# Altium integrated library TI Data Converters Analog to Digital Converter.IntLib: 2197 symbols (part 104 of 168)
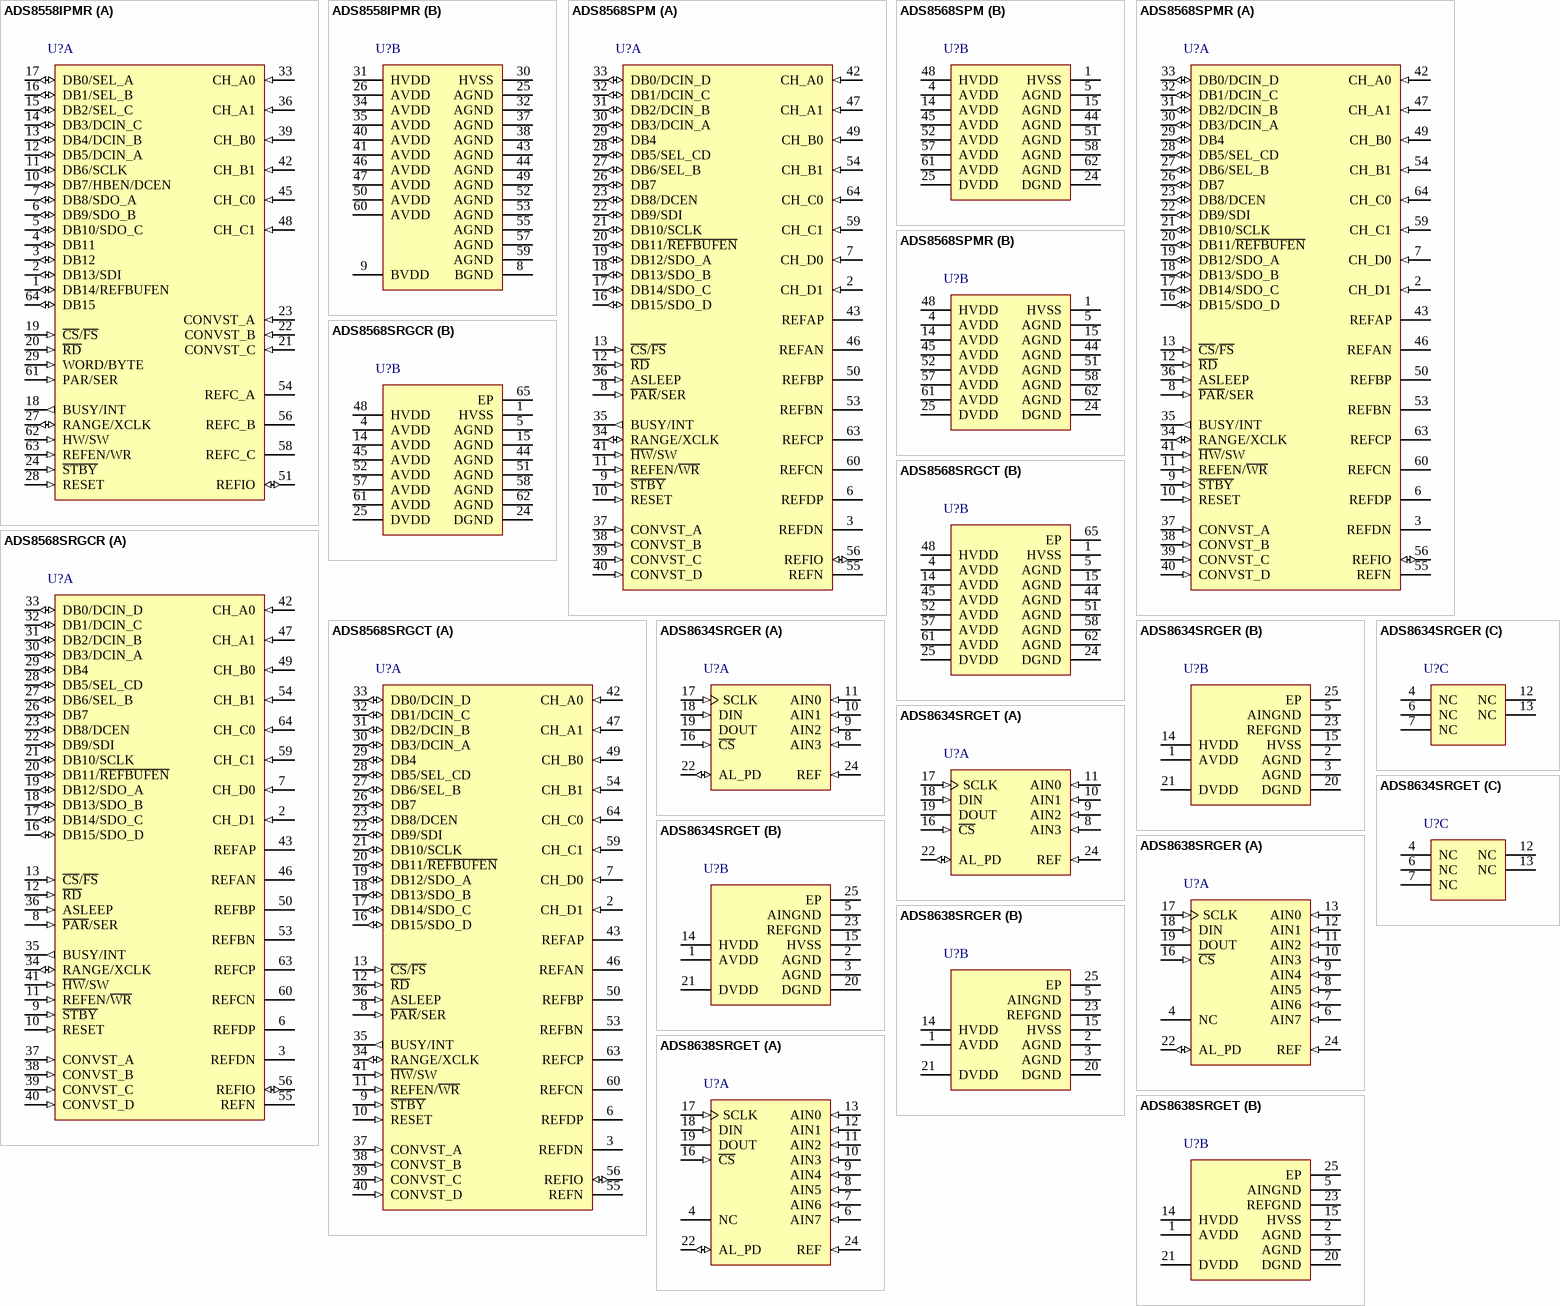
[diagram p229: symbols ADS8558IPMR to ADS8638SRGET]

## ADS8568SRGCR
designator U?
16-Bit, 8-Channel, Simultaneous Sampling, Bipolar Input ADC, -40 to 125 degC, 64-pin QFN (RGC64), Green (RoHS & no Sb/Br); Manufacturer: Texas Instruments; PartNumber: ADS8568SRGCR; # Input Channels: 8; Analog Voltage AV/DD(Max)(V): 5.5; Analog Voltage AV/DD(Min)(V): 4.5; Architecture: SAR; Digital Supply(Min)(V): 2.7; INL(Max)(+/-LSB): 4; Interface: Parallel CMOS,Serial SPI; Resolution(Bits): 16; Sample Rate (max)(SPS): 510K; SFDR(dB): 95; SINAD(dB): 90; SNR(dB): 91.5; SubFamily: Precision ADC (<=10MSPS); DatasheetVersion: SBAS543A; PackageVersion: 4204106/F, 11/2011; PackageReference: RGC64-7250X7250TP; PackageDescription: 64-Pin Plastic Quad Flatpack No-Lead, Body 9 x 9 mm, Pitch 0.5 mm; Supplier 1: Digi-Key; Supplier Part Number 1: ADS1211E/1KG4-ND; Supplier 2: Newark; Supplier Part Number 2: 53K9133; Supplier 3: Mouser; Supplier Part Number 3: 595-ADS1211E/1KG4; Digital Supply(Max)(V): 5.5; Eco-Plan: Green (RoHS & no Sb/Br); Mounting Technology: Surface Mount; ComponentLink1Description: Manufacturer URL; ComponentLink1URL: http://www.ti.com/; ComponentLink2Description: Datasheet; ComponentLink2URL: http://www.ti.com/general/docs/lit/getliterature.tsp?genericPartNumber=ADS8568&fileType=pdf; ComponentLink3Description: Package Specification; ComponentLink3URL: http://www.ti.com/litv/pdf/mpqf125e
footprint TI-RGC64-7250X7250TP_V (QFN, 64-Leads, Body 9x9mm, Pitch 0.5mm, Thermal Pad 7.25x7.25mm, TI Recommended)
part A pins: 2 CH_D1 (in) "Analog input of channel D1. The input voltage range is controlled by the RANGE pin in hardware mode or by the Configuration Register (CONFIG) bit C19 (RANGE_D) in software mode. This pin can be powered down using CONFIG bit (See Datasheet)", 3 REFDN "Decoupling capacitor input for reference of channel pair D. Connect to the decoupling capacitor and AGND according to the Power Supply section.", 6 REFDP "Decoupling capacitor input for the channel pair D reference. Connect to the decoupling capacitor according to the Power Supply section.", 7 CH_D0 (in) "Analog input of channel D0. The input voltage range is controlled by the RANGE pin in hardware mode or by CONFIG bit C19 (RANGE_D) in software mode. This pin can be powered down using CONFIG bit C18 (PD_D) in software mode.", 8 ~{PAR}/SER (in) "Interface mode selection input. When low, the parallel interface is selected. When high, the serial interface is enabled.", 9 ~{STBY} (in) "Hardware mode (H\W\/SW = 0): standby mode input. When low, the entire device is powered down (including the internal conversion clock source and reference). When high, the device operates in normal mode. Software mode (See Datasheet)", 10 RESET (in) "Reset input, active high. This pin aborts any ongoing conversions and resets the internal Configuration Register (CONFIG) to 000003FFh. A valid reset pulse should be at least 50 ns long.", 11 REFEN/~{WR} (in), 12 ~{RD} (in), 13 ~{CS}/~{FS} (in), 16 DB15/SDO_D (io), 17 DB14/SDO_C (io), 18 DB13/SDO_B (io), 19 DB12/SDO_A (io), 20 DB11/~{REFBUFEN} (io), 21 DB10/SCLK (io), 22 DB9/SDI (io), 23 DB8/DCEN (io), 26 DB7 (io), 27 DB6/SEL_B (io), 28 DB5/SEL_CD (io), 29 DB4 (io), 30 DB3/DCIN_A (io), 31 DB2/DCIN_B (io), 32 DB1/DCIN_C (io), 33 DB0/DCIN_D (io), 34 RANGE/XCLK (io) "Hardware mode (H\W\/SW = 0): analog input voltage range select input. When low, the analog input voltage range is +/-4VREF. When high, the analog input voltage range is +/-2VREF. Sofware mode (H\W\/SW = 1): this pin is an (See Datasheet)", 35 BUSY/INT (out) "When CONFIG bit C27 = 0 (BUSY/INT) this pin is a converter busy status output. This pin transitions high when a conversion has been started and transitions low for a single conversion clock cycle (tCCLK) whenever a channel (See Datasheet)", 36 ASLEEP (in) "Auto-sleep enable input. When low, the device operates in normal mode. When high, the device works in auto-sleep mode where the hold mode and the actual conversion is activated 6 conversion clock (tCCLK) cycles after issuing (See Datasheet)", 37 CONVST_A (in) "Conversion start of channel pair A. The rising edge of this signal initiates simultaneous conversion of analog signals at inputs CH_A[1:0]. This signal resets the internal channel state machine that causes the data output to (See Datasheet)", 38 CONVST_B (in) "Conversion start of channel pair B. The rising edge of this signal initiates simultaneous conversion of analog signals at inputs CH_B[1:0].", 39 CONVST_C (in) "Conversion start of channel pair C. The rising edge of this signal initiates simultaneous conversion of analog signals at inputs CH_C[1:0].", 40 CONVST_D (in) "Conversion start of channel pair D. The rising edge of this signal initiates simultaneous conversion of analog signals at inputs CH_D[1:0].", 41 ~{HW}/SW (in) "Mode selection input. When low, the hardware mode is selected and the device functions according to the settings of the external pins. When high, the software mode is selected in which the device is configured by writing to (See Datasheet)", 42 CH_A0 (in) "Analog input of channel A0; channel A is the master channel pair that is always active. The input voltage range is controlled by the RANGE pin in hardware mode or by CONFIG bit C24 (RANGE_A) in software mode. In cases where (See Datasheet)", 43 REFAP "Decoupling capacitor input for reference of channel pair A. Connect to the decoupling capacitor according to the Power Supply section.", 46 REFAN "Decoupling capacitor input for reference of channel pair A. Connect to the decoupling capacitor and AGND according to the Power Supply section.", 47 CH_A1 (in) "Analog input of channel A1; channel A is the master channel pair that is always active. The input voltage range is controlled by the RANGE pin in hardware mode or by CONFIG bit C24 (RANGE_A) in software mode. In cases where (See Datasheet)", 49 CH_B0 (in) "Analog input of channel B0. The input voltage range is controlled by the RANGE pin in hardware mode or by CONFIG bit C23 (RANGE_B) in software mode.", 50 REFBP "Decoupling capacitor input for reference of channel pair B. Connect to the decoupling capacitor according to the Power Supply section.", 53 REFBN "Decoupling capacitor input for reference of channel pair B. Connect to the decoupling capacitor and AGND according to the Power Supply section.", 54 CH_B1 (in) "Analog input of channel B1. The input voltage range is controlled by the RANGE pin in hardware mode or by CONFIG bit C23 (RANGE_B) in software mode.", 55 REFN "Negative reference input/output pin. Connect to a decoupling capacitor and AGND according to the Power Supply section.", 56 REFIO (io) "Reference voltage input/output. The internal reference is enabled by the REFEN/WR pin in hardware mode or by CONFIG bit C15 (REFEN) in software mode. The output value is controlled by the internal DAC (CONFIG bits C[9:0]). (See Datasheet)", 59 CH_C1 (in) "Analog input of channel C1. The input voltage range is controlled by the RANGE pin in hardware mode or by CONFIG bit C21 (RANGE_C) in software mode.", 60 REFCN "Decoupling capacitor input for reference of channel pair C. Connect to the decoupling capacitor and AGND according to the Power Supply section.", 63 REFCP "Decoupling capacitor input for reference of channel pair C. Connect to the decoupling capacitor according to the Power Supply section.", 64 CH_C0 (in) "Analog input of channel C0. The input voltage range is controlled by the RANGE pin in hardware mode or by CONFIG bit C21 (RANGE_C) in software mode."
part B pins: 1 HVSS (power) "Negative supply voltage for the analog inputs. Decouple according to the Power Supply section.", 4 AVDD (power) "Analog power supply. Decouple according to the Power Supply section.", 5 AGND (power) "Analog ground; connect to the analog ground plane.", 14 AVDD (power) "Analog power supply. Decouple according to the Power Supply section.", 15 AGND (power) "Analog ground; connect to the analog ground plane.", 24 DGND (power) "Buffer I/O ground, connect to digital ground plane", 25 DVDD (power) "Buffer I/O supply, connect to digital supply. Decouple according to the Power Supply section.", 44 AGND (power) "Analog ground; connect to the analog ground plane.", 45 AVDD (power) "Analog power supply. Decouple according to the Power Supply section.", 48 HVDD (power) "Positive supply voltage for the analog inputs. Decouple according to the Power Supply section.", 51 AGND (power) "Analog ground; connect to the analog ground plane.", 52 AVDD (power) "Analog power supply. Decouple according to the Power Supply section.", 57 AVDD (power) "Analog power supply. Decouple according to the Power Supply section.", 58 AGND (power) "Analog ground; connect to the analog ground plane.", 61 AVDD (power) "Analog power supply. Decouple according to the Power Supply section.", 62 AGND (power) "Analog ground; connect to the analog ground plane.", 65 EP

## ADS8568SRGCT
designator U?
16-Bit, 8-Channel, Simultaneous Sampling, Bipolar Input ADC, -40 to 125 degC, 64-pin QFN (RGC64), Green (RoHS & no Sb/Br); Manufacturer: Texas Instruments; PartNumber: ADS8568SRGCT; # Input Channels: 8; Analog Voltage AV/DD(Max)(V): 5.5; Analog Voltage AV/DD(Min)(V): 4.5; Architecture: SAR; Digital Supply(Min)(V): 2.7; INL(Max)(+/-LSB): 4; Interface: Parallel CMOS,Serial SPI; Resolution(Bits): 16; Sample Rate (max)(SPS): 510K; SFDR(dB): 95; SINAD(dB): 90; SNR(dB): 91.5; SubFamily: Precision ADC (<=10MSPS); DatasheetVersion: SBAS543A; PackageVersion: 4204106/F, 11/2011; PackageReference: RGC64-7250X7250TP; PackageDescription: 64-Pin Plastic Quad Flatpack No-Lead, Body 9 x 9 mm, Pitch 0.5 mm; Supplier 1: Digi-Key; Supplier Part Number 1: ADS1211EG4-ND; Supplier 2: Mouser; Supplier Part Number 2: 595-ADS1211EG4; Digital Supply(Max)(V): 5.5; Eco-Plan: Green (RoHS & no Sb/Br); Mounting Technology: Surface Mount; ComponentLink1Description: Manufacturer URL; ComponentLink1URL: http://www.ti.com/; ComponentLink2Description: Datasheet; ComponentLink2URL: http://www.ti.com/general/docs/lit/getliterature.tsp?genericPartNumber=ADS8568&fileType=pdf; ComponentLink3Description: Package Specification; ComponentLink3URL: http://www.ti.com/litv/pdf/mpqf125e
footprint TI-RGC64-7250X7250TP_V (QFN, 64-Leads, Body 9x9mm, Pitch 0.5mm, Thermal Pad 7.25x7.25mm, TI Recommended)
part A pins: 2 CH_D1 (in) "Analog input of channel D1. The input voltage range is controlled by the RANGE pin in hardware mode or by the Configuration Register (CONFIG) bit C19 (RANGE_D) in software mode. This pin can be powered down using CONFIG bit (See Datasheet)", 3 REFDN "Decoupling capacitor input for reference of channel pair D. Connect to the decoupling capacitor and AGND according to the Power Supply section.", 6 REFDP "Decoupling capacitor input for the channel pair D reference. Connect to the decoupling capacitor according to the Power Supply section.", 7 CH_D0 (in) "Analog input of channel D0. The input voltage range is controlled by the RANGE pin in hardware mode or by CONFIG bit C19 (RANGE_D) in software mode. This pin can be powered down using CONFIG bit C18 (PD_D) in software mode.", 8 ~{PAR}/SER (in) "Interface mode selection input. When low, the parallel interface is selected. When high, the serial interface is enabled.", 9 ~{STBY} (in) "Hardware mode (H\W\/SW = 0): standby mode input. When low, the entire device is powered down (including the internal conversion clock source and reference). When high, the device operates in normal mode. Software mode (See Datasheet)", 10 RESET (in) "Reset input, active high. This pin aborts any ongoing conversions and resets the internal Configuration Register (CONFIG) to 000003FFh. A valid reset pulse should be at least 50 ns long.", 11 REFEN/~{WR} (in), 12 ~{RD} (in), 13 ~{CS}/~{FS} (in), 16 DB15/SDO_D (io), 17 DB14/SDO_C (io), 18 DB13/SDO_B (io), 19 DB12/SDO_A (io), 20 DB11/~{REFBUFEN} (io), 21 DB10/SCLK (io), 22 DB9/SDI (io), 23 DB8/DCEN (io), 26 DB7 (io), 27 DB6/SEL_B (io), 28 DB5/SEL_CD (io), 29 DB4 (io), 30 DB3/DCIN_A (io), 31 DB2/DCIN_B (io), 32 DB1/DCIN_C (io), 33 DB0/DCIN_D (io), 34 RANGE/XCLK (io) "Hardware mode (H\W\/SW = 0): analog input voltage range select input. When low, the analog input voltage range is +/-4VREF. When high, the analog input voltage range is +/-2VREF. Sofware mode (H\W\/SW = 1): this pin is an (See Datasheet)", 35 BUSY/INT (out) "When CONFIG bit C27 = 0 (BUSY/INT) this pin is a converter busy status output. This pin transitions high when a conversion has been started and transitions low for a single conversion clock cycle (tCCLK) whenever a channel (See Datasheet)", 36 ASLEEP (in) "Auto-sleep enable input. When low, the device operates in normal mode. When high, the device works in auto-sleep mode where the hold mode and the actual conversion is activated 6 conversion clock (tCCLK) cycles after issuing (See Datasheet)", 37 CONVST_A (in) "Conversion start of channel pair A. The rising edge of this signal initiates simultaneous conversion of analog signals at inputs CH_A[1:0]. This signal resets the internal channel state machine that causes the data output to (See Datasheet)", 38 CONVST_B (in) "Conversion start of channel pair B. The rising edge of this signal initiates simultaneous conversion of analog signals at inputs CH_B[1:0].", 39 CONVST_C (in) "Conversion start of channel pair C. The rising edge of this signal initiates simultaneous conversion of analog signals at inputs CH_C[1:0].", 40 CONVST_D (in) "Conversion start of channel pair D. The rising edge of this signal initiates simultaneous conversion of analog signals at inputs CH_D[1:0].", 41 ~{HW}/SW (in) "Mode selection input. When low, the hardware mode is selected and the device functions according to the settings of the external pins. When high, the software mode is selected in which the device is configured by writing to (See Datasheet)", 42 CH_A0 (in) "Analog input of channel A0; channel A is the master channel pair that is always active. The input voltage range is controlled by the RANGE pin in hardware mode or by CONFIG bit C24 (RANGE_A) in software mode. In cases where (See Datasheet)", 43 REFAP "Decoupling capacitor input for reference of channel pair A. Connect to the decoupling capacitor according to the Power Supply section.", 46 REFAN "Decoupling capacitor input for reference of channel pair A. Connect to the decoupling capacitor and AGND according to the Power Supply section.", 47 CH_A1 (in) "Analog input of channel A1; channel A is the master channel pair that is always active. The input voltage range is controlled by the RANGE pin in hardware mode or by CONFIG bit C24 (RANGE_A) in software mode. In cases where (See Datasheet)", 49 CH_B0 (in) "Analog input of channel B0. The input voltage range is controlled by the RANGE pin in hardware mode or by CONFIG bit C23 (RANGE_B) in software mode.", 50 REFBP "Decoupling capacitor input for reference of channel pair B. Connect to the decoupling capacitor according to the Power Supply section.", 53 REFBN "Decoupling capacitor input for reference of channel pair B. Connect to the decoupling capacitor and AGND according to the Power Supply section.", 54 CH_B1 (in) "Analog input of channel B1. The input voltage range is controlled by the RANGE pin in hardware mode or by CONFIG bit C23 (RANGE_B) in software mode.", 55 REFN "Negative reference input/output pin. Connect to a decoupling capacitor and AGND according to the Power Supply section.", 56 REFIO (io) "Reference voltage input/output. The internal reference is enabled by the REFEN/WR pin in hardware mode or by CONFIG bit C15 (REFEN) in software mode. The output value is controlled by the internal DAC (CONFIG bits C[9:0]). (See Datasheet)", 59 CH_C1 (in) "Analog input of channel C1. The input voltage range is controlled by the RANGE pin in hardware mode or by CONFIG bit C21 (RANGE_C) in software mode.", 60 REFCN "Decoupling capacitor input for reference of channel pair C. Connect to the decoupling capacitor and AGND according to the Power Supply section.", 63 REFCP "Decoupling capacitor input for reference of channel pair C. Connect to the decoupling capacitor according to the Power Supply section.", 64 CH_C0 (in) "Analog input of channel C0. The input voltage range is controlled by the RANGE pin in hardware mode or by CONFIG bit C21 (RANGE_C) in software mode."
part B pins: 1 HVSS (power) "Negative supply voltage for the analog inputs. Decouple according to the Power Supply section.", 4 AVDD (power) "Analog power supply. Decouple according to the Power Supply section.", 5 AGND (power) "Analog ground; connect to the analog ground plane.", 14 AVDD (power) "Analog power supply. Decouple according to the Power Supply section.", 15 AGND (power) "Analog ground; connect to the analog ground plane.", 24 DGND (power) "Buffer I/O ground, connect to digital ground plane", 25 DVDD (power) "Buffer I/O supply, connect to digital supply. Decouple according to the Power Supply section.", 44 AGND (power) "Analog ground; connect to the analog ground plane.", 45 AVDD (power) "Analog power supply. Decouple according to the Power Supply section.", 48 HVDD (power) "Positive supply voltage for the analog inputs. Decouple according to the Power Supply section.", 51 AGND (power) "Analog ground; connect to the analog ground plane.", 52 AVDD (power) "Analog power supply. Decouple according to the Power Supply section.", 57 AVDD (power) "Analog power supply. Decouple according to the Power Supply section.", 58 AGND (power) "Analog ground; connect to the analog ground plane.", 61 AVDD (power) "Analog power supply. Decouple according to the Power Supply section.", 62 AGND (power) "Analog ground; connect to the analog ground plane.", 65 EP

## ADS8634SRGER
designator U?
12-Bit, 4-Channel, Bipolar SAR with Software Selectable Input Range, -40 to 125 degC, 24-pin QFN (RGE24), Green (RoHS & no Sb/Br); Manufacturer: Texas Instruments; PartNumber: ADS8634SRGER; # Input Channels: 4; Analog Voltage AV/DD(Max)(V): 5.25; Analog Voltage AV/DD(Min)(V): 2.7; Digital Supply(Min)(V): 1.65; INL(Max)(+/-LSB): 1.5; Interface: Serial; Resolution(Bits): 12; Sample Rate (max)(SPS): 1M; SFDR(dB): 83; SINAD(dB): 71.3; SNR(dB): 71.8; SubFamily: Precision ADC (<=10MSPS); DatasheetVersion: SBAS541A; PackageVersion: 4204104/G, 07/2011; PackageReference: RGE24-2700X2700TP; PackageDescription: 24-Pin Plastic Flat Pack, Body 4 x 4 mm, Pitch 0.5 mm; Supplier 1: Digi-Key; Supplier Part Number 1: ADS1211P-ND; Supplier 2: Newark; Supplier Part Number 2: 96K2329; Supplier 3: Mouser; Supplier Part Number 3: 595-ADS1211P; Architecture: SAR; Digital Supply(Max)(V): 5.25; Eco-Plan: Green (RoHS & no Sb/Br); Mounting Technology: Surface Mount; Code_JEDEC: MO-220; ComponentLink1Description: Manufacturer URL; ComponentLink1URL: http://www.ti.com/; ComponentLink2Description: Datasheet; ComponentLink2URL: http://www.ti.com/general/docs/lit/getliterature.tsp?genericPartNumber=ADS8634&fileType=pdf; ComponentLink3Description: Package Specification; ComponentLink3URL: http://www.ti.com/litv/pdf/mpqf124f
footprint TI-RGE24-2700X2700TP_V (QFN, 24-Leads, Body 4x4mm, Pitch 0.5mm, Thermal Pad 2.7x2.7mm)
part A pins: 8 AIN3 (in) "Analog input channel 3", 9 AIN2 (in) "Analog input channel 2", 10 AIN1 (in) "Analog input channel 1", 11 AIN0 (in) "Analog input channel 0", 16 ~{CS} (in) "Chip select input", 17 SCLK (in) "Serial clock input", 18 DIN (in) "Serial data input", 19 DOUT (hiz) "Serial data output", 22 AL_PD (io) "Active high, output indicates alarm (programmed as an output pin) Active low, asynchronous power-down. The device features an internal, weak pull-up resistor from the AL_PD pin to DVDD. The AL_PD pin can also be floated when (See Datasheet)", 24 REF (in) "Reference input to device when an external reference is selected. This pin acts as a reference decoupling terminal when an internal reference is selected."
part B pins: 1 AVDD (power) "Analog power supply", 2 AGND (power) "Analog ground", 3 AGND (power) "Analog ground", 5 AINGND (power) "Common for all analog input channels; acts as ground sense terminal", 14 HVDD (power) "High-voltage positive supply for multiplexer channels", 15 HVSS (power) "High-voltage negative supply for multiplexer channels", 20 DGND (power) "Digital ground", 21 DVDD (power) "Digital I/O supply", 23 REFGND (power) "Reference ground input to device when an external reference is selected. This pin acts as a reference decoupling ground terminal when an internal reference is selected.", 25 EP
part C pins: 4 NC "These pins are not internally connected; do not float these pins. It is recommended to connect these pins to AGND.", 6 NC "These pins are not internally connected; do not float these pins. It is recommended to connect these pins to AGND.", 7 NC "These pins are not internally connected; do not float these pins. It is recommended to connect these pins to AGND.", 12 NC "These pins are not internally connected; do not float these pins. It is recommended to connect these pins to AGND.", 13 NC "These pins are not internally connected; do not float these pins. It is recommended to connect these pins to AGND."

## ADS8634SRGET
designator U?
12-Bit, 4-Channel, Bipolar SAR with Software Selectable Input Range, -40 to 125 degC, 24-pin QFN (RGE24), Green (RoHS & no Sb/Br); Manufacturer: Texas Instruments; PartNumber: ADS8634SRGET; # Input Channels: 4; Analog Voltage AV/DD(Max)(V): 5.25; Analog Voltage AV/DD(Min)(V): 2.7; Digital Supply(Min)(V): 1.65; INL(Max)(+/-LSB): 1.5; Interface: Serial; Resolution(Bits): 12; Sample Rate (max)(SPS): 1M; SFDR(dB): 83; SINAD(dB): 71.3; SNR(dB): 71.8; SubFamily: Precision ADC (<=10MSPS); DatasheetVersion: SBAS541A; PackageVersion: 4204104/G, 07/2011; PackageReference: RGE24-2700X2700TP; PackageDescription: 24-Pin Plastic Flat Pack, Body 4 x 4 mm, Pitch 0.5 mm; Supplier 1: Digi-Key; Supplier Part Number 1: ADS1211PG4-ND; Supplier 2: Newark; Supplier Part Number 2: 99K1769; Supplier 3: Mouser; Supplier Part Number 3: 595-ADS1211PG4; Architecture: SAR; Digital Supply(Max)(V): 5.25; Eco-Plan: Green (RoHS & no Sb/Br); Mounting Technology: Surface Mount; Code_JEDEC: MO-220; ComponentLink1Description: Manufacturer URL; ComponentLink1URL: http://www.ti.com/; ComponentLink2Description: Datasheet; ComponentLink2URL: http://www.ti.com/general/docs/lit/getliterature.tsp?genericPartNumber=ADS8634&fileType=pdf; ComponentLink3Description: Package Specification; ComponentLink3URL: http://www.ti.com/litv/pdf/mpqf124f
footprint TI-RGE24-2700X2700TP_V (QFN, 24-Leads, Body 4x4mm, Pitch 0.5mm, Thermal Pad 2.7x2.7mm)
part A pins: 8 AIN3 (in) "Analog input channel 3", 9 AIN2 (in) "Analog input channel 2", 10 AIN1 (in) "Analog input channel 1", 11 AIN0 (in) "Analog input channel 0", 16 ~{CS} (in) "Chip select input", 17 SCLK (in) "Serial clock input", 18 DIN (in) "Serial data input", 19 DOUT (hiz) "Serial data output", 22 AL_PD (io) "Active high, output indicates alarm (programmed as an output pin) Active low, asynchronous power-down. The device features an internal, weak pull-up resistor from the AL_PD pin to DVDD. The AL_PD pin can also be floated when (See Datasheet)", 24 REF (in) "Reference input to device when an external reference is selected. This pin acts as a reference decoupling terminal when an internal reference is selected."
part B pins: 1 AVDD (power) "Analog power supply", 2 AGND (power) "Analog ground", 3 AGND (power) "Analog ground", 5 AINGND (power) "Common for all analog input channels; acts as ground sense terminal", 14 HVDD (power) "High-voltage positive supply for multiplexer channels", 15 HVSS (power) "High-voltage negative supply for multiplexer channels", 20 DGND (power) "Digital ground", 21 DVDD (power) "Digital I/O supply", 23 REFGND (power) "Reference ground input to device when an external reference is selected. This pin acts as a reference decoupling ground terminal when an internal reference is selected.", 25 EP
part C pins: 4 NC "These pins are not internally connected; do not float these pins. It is recommended to connect these pins to AGND.", 6 NC "These pins are not internally connected; do not float these pins. It is recommended to connect these pins to AGND.", 7 NC "These pins are not internally connected; do not float these pins. It is recommended to connect these pins to AGND.", 12 NC "These pins are not internally connected; do not float these pins. It is recommended to connect these pins to AGND.", 13 NC "These pins are not internally connected; do not float these pins. It is recommended to connect these pins to AGND."

## ADS8638SRGER
designator U?
12-Bit, 8-Channel, Bipolar SAR with Software Selectable Input Range, -40 to 125 degC, 24-pin QFN (RGE24), Green (RoHS & no Sb/Br); Manufacturer: Texas Instruments; PartNumber: ADS8638SRGER; # Input Channels: 8; Analog Voltage AV/DD(Max)(V): 5.25; Analog Voltage AV/DD(Min)(V): 2.7; Digital Supply(Min)(V): 1.65; INL(Max)(+/-LSB): 1.5; Interface: Serial; Resolution(Bits): 12; Sample Rate (max)(SPS): 1M; SFDR(dB): 83; SINAD(dB): 71.3; SNR(dB): 71.8; SubFamily: Precision ADC (<=10MSPS); DatasheetVersion: SBAS541A; PackageVersion: 4204104/G, 07/2011; PackageReference: RGE24-2700X2700TP; PackageDescription: 24-Pin Plastic Flat Pack, Body 4 x 4 mm, Pitch 0.5 mm; Supplier 1: Digi-Key; Supplier Part Number 1: ADS1211U-ND; Supplier 2: Newark; Supplier Part Number 2: 35C1513; Supplier 3: Mouser; Supplier Part Number 3: 595-ADS1211U; Architecture: SAR; Digital Supply(Max)(V): 5.25; Eco-Plan: Green (RoHS & no Sb/Br); Mounting Technology: Surface Mount; Code_JEDEC: MO-220; ComponentLink1Description: Manufacturer URL; ComponentLink1URL: http://www.ti.com/; ComponentLink2Description: Datasheet; ComponentLink2URL: http://www.ti.com/general/docs/lit/getliterature.tsp?genericPartNumber=ADS8638&fileType=pdf; ComponentLink3Description: Package Specification; ComponentLink3URL: http://www.ti.com/litv/pdf/mpqf124f
footprint TI-RGE24-2700X2700TP_V (QFN, 24-Leads, Body 4x4mm, Pitch 0.5mm, Thermal Pad 2.7x2.7mm)
part A pins: 4 NC "These pins are not internally connected; do not float these pins. It is recommended to connect these pins to AGND.", 6 AIN7 (in) "Analog input channel 7", 7 AIN6 (in) "Analog input channel 6", 8 AIN5 (in) "Analog input channel 5", 9 AIN4 (in) "Analog input channel 4", 10 AIN3 (in) "Analog input channel 3", 11 AIN2 (in) "Analog input channel 2", 12 AIN1 (in) "Analog input channel 1", 13 AIN0 (in) "Analog input channel 0", 16 ~{CS} (in) "Chip select input", 17 SCLK (in) "Serial clock input", 18 DIN (in) "Serial data input", 19 DOUT (hiz) "Serial data output", 22 AL_PD (io) "Active high, output indicating alarm (programmed as an output pin).Active low, asynchronous power-down (programmed as an input pin, default condition)", 24 REF (in) "Reference input to device when an external reference is selected. This pin acts as a reference decoupling terminal when an internal reference is selected."
part B pins: 1 AVDD (power) "Analog power supply", 2 AGND (power) "Analog ground", 3 AGND (power) "Analog ground", 5 AINGND (power) "Common for all analog input channels; acts as ground sense terminal", 14 HVDD (power) "High-voltage positive supply for multiplexer channels", 15 HVSS (power) "High-voltage negative supply for multiplexer channels", 20 DGND (power) "Digital ground", 21 DVDD (power) "Digital I/O supply", 23 REFGND (power) "Reference ground input to device when an external reference is selected. This pin acts as a reference decoupling ground terminal when an internal reference is selected.", 25 EP

## ADS8638SRGET
designator U?
12-Bit, 8-Channel, Bipolar SAR with Software Selectable Input Range, -40 to 125 degC, 24-pin QFN (RGE24), Green (RoHS & no Sb/Br); Manufacturer: Texas Instruments; PartNumber: ADS8638SRGET; # Input Channels: 8; Analog Voltage AV/DD(Max)(V): 5.25; Analog Voltage AV/DD(Min)(V): 2.7; Digital Supply(Min)(V): 1.65; INL(Max)(+/-LSB): 1.5; Interface: Serial; Resolution(Bits): 12; Sample Rate (max)(SPS): 1M; SFDR(dB): 83; SINAD(dB): 71.3; SNR(dB): 71.8; SubFamily: Precision ADC (<=10MSPS); DatasheetVersion: SBAS541A; PackageVersion: 4204104/G, 07/2011; PackageReference: RGE24-2700X2700TP; PackageDescription: 24-Pin Plastic Flat Pack, Body 4 x 4 mm, Pitch 0.5 mm; Supplier 1: Digi-Key; Supplier Part Number 1: ADS1211U/1K-ND; Supplier 2: Mouser; Supplier Part Number 2: 595-ADS1211U/1K; Architecture: SAR; Digital Supply(Max)(V): 5.25; Eco-Plan: Green (RoHS & no Sb/Br); Mounting Technology: Surface Mount; Code_JEDEC: MO-220; ComponentLink1Description: Manufacturer URL; ComponentLink1URL: http://www.ti.com/; ComponentLink2Description: Datasheet; ComponentLink2URL: http://www.ti.com/general/docs/lit/getliterature.tsp?genericPartNumber=ADS8638&fileType=pdf; ComponentLink3Description: Package Specification; ComponentLink3URL: http://www.ti.com/litv/pdf/mpqf124f
footprint TI-RGE24-2700X2700TP_V (QFN, 24-Leads, Body 4x4mm, Pitch 0.5mm, Thermal Pad 2.7x2.7mm)
part A pins: 4 NC "These pins are not internally connected; do not float these pins. It is recommended to connect these pins to AGND.", 6 AIN7 (in) "Analog input channel 7", 7 AIN6 (in) "Analog input channel 6", 8 AIN5 (in) "Analog input channel 5", 9 AIN4 (in) "Analog input channel 4", 10 AIN3 (in) "Analog input channel 3", 11 AIN2 (in) "Analog input channel 2", 12 AIN1 (in) "Analog input channel 1", 13 AIN0 (in) "Analog input channel 0", 16 ~{CS} (in) "Chip select input", 17 SCLK (in) "Serial clock input", 18 DIN (in) "Serial data input", 19 DOUT (hiz) "Serial data output", 22 AL_PD (io) "Active high, output indicating alarm (programmed as an output pin).Active low, asynchronous power-down (programmed as an input pin, default condition)", 24 REF (in) "Reference input to device when an external reference is selected. This pin acts as a reference decoupling terminal when an internal reference is selected."
part B pins: 1 AVDD (power) "Analog power supply", 2 AGND (power) "Analog ground", 3 AGND (power) "Analog ground", 5 AINGND (power) "Common for all analog input channels; acts as ground sense terminal", 14 HVDD (power) "High-voltage positive supply for multiplexer channels", 15 HVSS (power) "High-voltage negative supply for multiplexer channels", 20 DGND (power) "Digital ground", 21 DVDD (power) "Digital I/O supply", 23 REFGND (power) "Reference ground input to device when an external reference is selected. This pin acts as a reference decoupling ground terminal when an internal reference is selected.", 25 EP

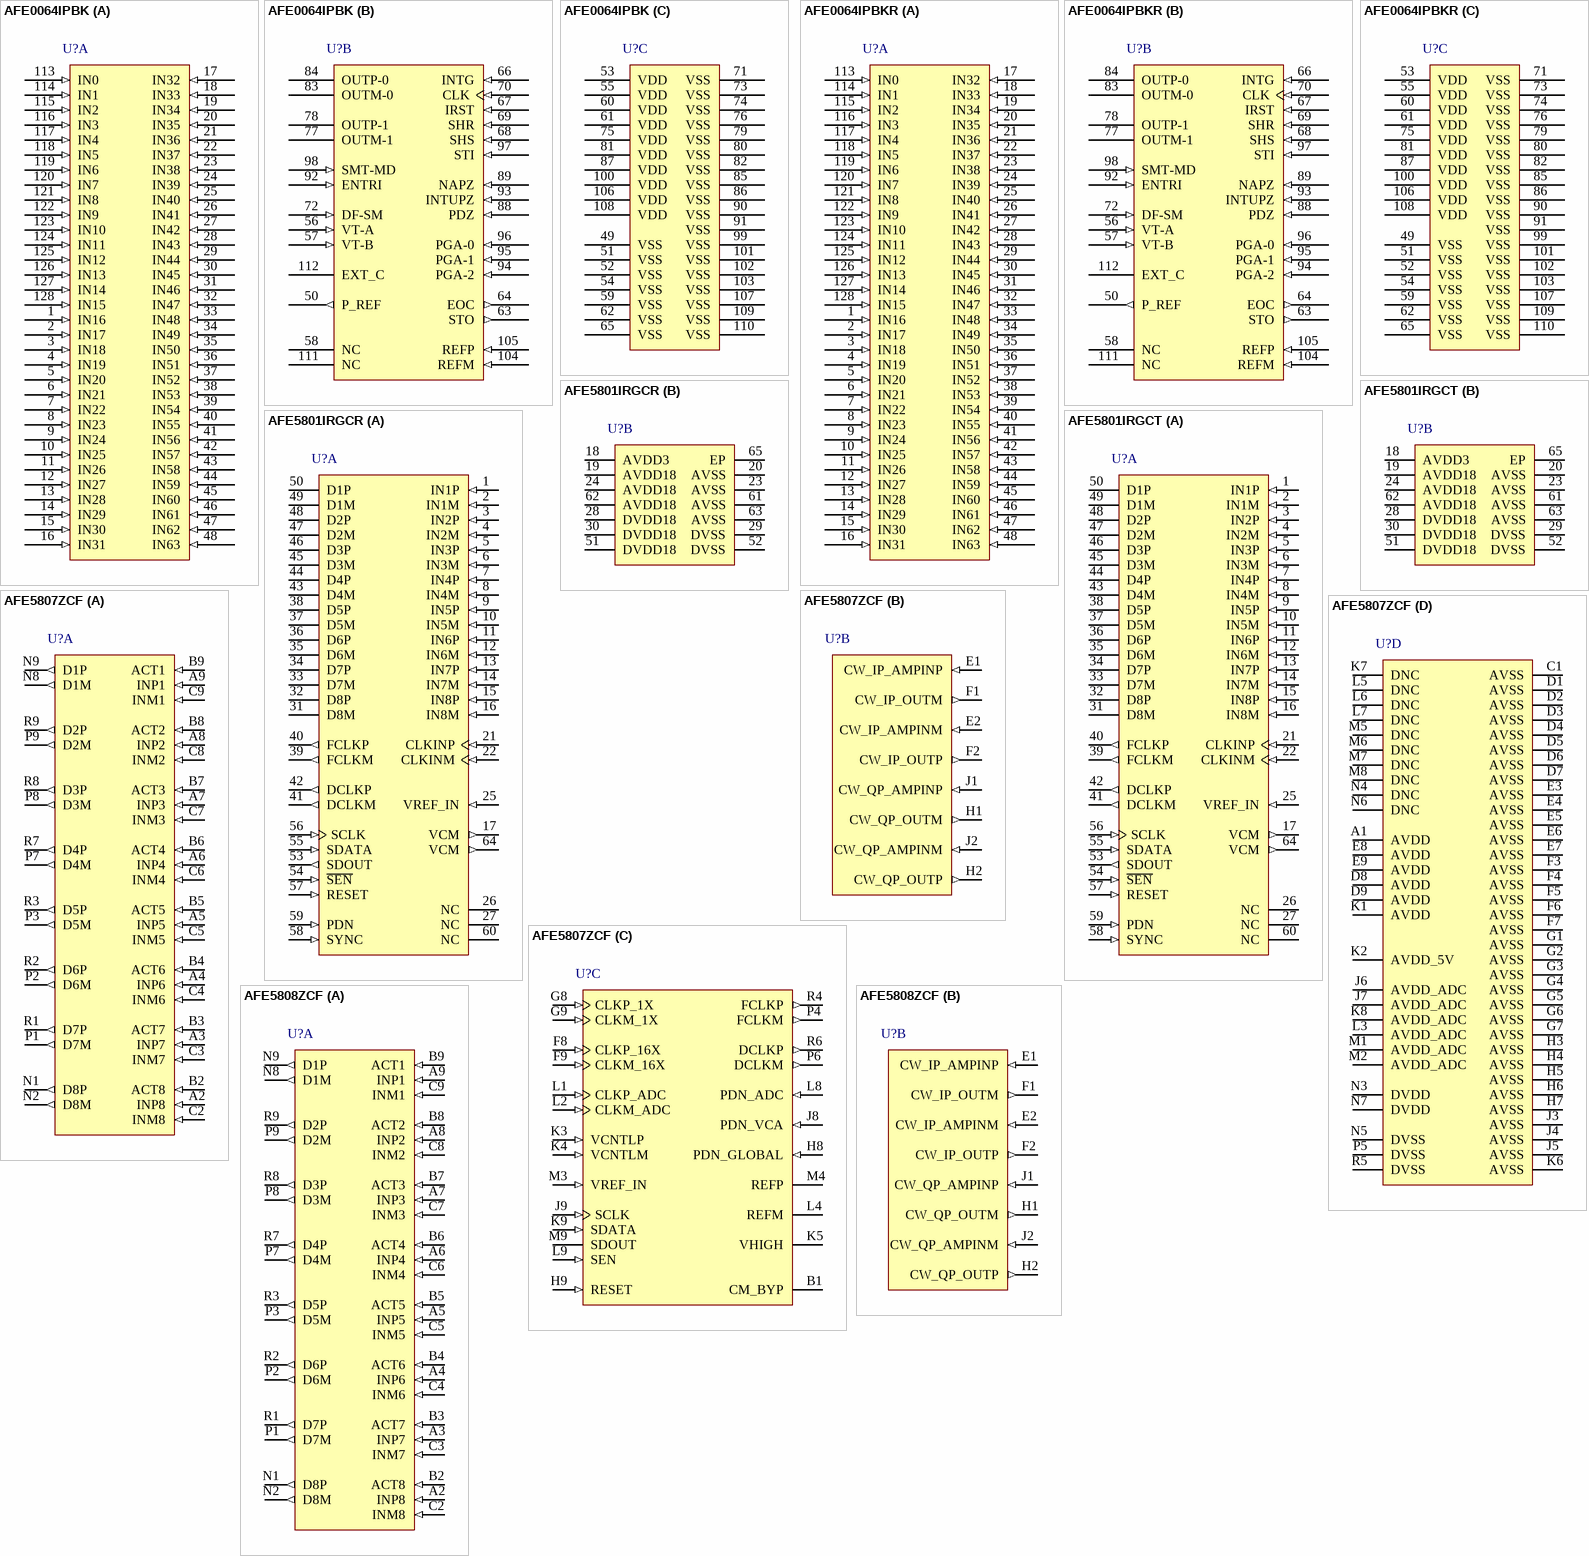
[diagram p88: symbols AFE0064IPBK to AFE5808ZCF]

## AFE0064IPBK
designator U?
64 Channel Analog Front End for Digital X-Ray Detector, -40 to 85 degC, 128-pin QFP (PBK128), Green (RoHS & no Sb/Br); Manufacturer: Texas Instruments; PartNumber: AFE0064IPBK; # Input Channels: 64; Analog Voltage AV/DD(Max)(V): 3.6; Analog Voltage AV/DD(Min)(V): 3.2; Resolution(Bits): 14; SubFamily: Current Input ADC; DatasheetVersion: SLAS672; PackageVersion: 4040279-3/C, 10/1996; PackageReference: PBK128; PackageDescription: 128-Pin Plastic Quad Flatpack, Body 14 x 14 mm, Pitch 0.4 mm; Supplier 1: Digi-Key; Supplier Part Number 1: ADS1211U/1KG4-ND; Supplier 2: Mouser; Supplier Part Number 2: 595-ADS1211U/1KG4; Digital Supply(Max)(V): 3.6; Digital Supply(Min)(V): 3.2; Eco-Plan: Green (RoHS & no Sb/Br); Mounting Technology: Surface Mount; Code_JEDEC: MS-026; ComponentLink1Description: Manufacturer URL; ComponentLink1URL: http://www.ti.com/; ComponentLink2Description: Datasheet; ComponentLink2URL: http://www.ti.com/general/docs/lit/getliterature.tsp?genericPartNumber=AFE0064&fileType=pdf; ComponentLink3Description: Package Specification; ComponentLink3URL: http://www.ti.com/litv/pdf/mtqf015a
footprint TI-PBK128_N (QFP, 128-Leads, Body 14x14mm, Pitch 0.4mm, IPC Medium Density)
footprint TI-PBK128_L (QFP, 128-Leads, Body 14x14mm, Pitch 0.4mm, IPC High Density)
footprint TI-PBK128_M (QFP, 128-Leads, Body 14x14mm, Pitch 0.4mm, IPC Low Density)
part A pins: 1 IN16 (in) "Analog input channel 16", 2 IN17 (in) "Analog input channel 17", 3 IN18 (in) "Analog input channel 18", 4 IN19 (in) "Analog input channel 19", 5 IN20 (in) "Analog input channel 20", 6 IN21 (in) "Analog input channel 21", 7 IN22 (in) "Analog input channel 22", 8 IN23 (in) "Analog input channel 23", 9 IN24 (in) "Analog input channel 24", 10 IN25 (in) "Analog input channel 25", 11 IN26 (in) "Analog input channel 26", 12 IN27 (in) "Analog input channel 27", 13 IN28 (in) "Analog input channel 28", 14 IN29 (in) "Analog input channel 29", 15 IN30 (in) "Analog input channel 30", 16 IN31 (in) "Analog input channel 31", 17 IN32 (in) "Analog input channel 32", 18 IN33 (in) "Analog input channel 33", 19 IN34 (in) "Analog input channel 34", 20 IN35 (in) "Analog input channel 35", 21 IN36 (in) "Analog input channel 36", 22 IN37 (in) "Analog input channel 37", 23 IN38 (in) "Analog input channel 38", 24 IN39 (in) "Analog input channel 39", 25 IN40 (in) "Analog input channel 40", 26 IN41 (in) "Analog input channel 41", 27 IN42 (in) "Analog input channel 42", 28 IN43 (in) "Analog input channel 43", 29 IN44 (in) "Analog input channel 44", 30 IN45 (in) "Analog input channel 45", 31 IN46 (in) "Analog input channel 46", 32 IN47 (in) "Analog input channel 47", 33 IN48 (in) "Analog input channel 48", 34 IN49 (in) "Analog input channel 49", 35 IN50 (in) "Analog input channel 50", 36 IN51 (in) "Analog input channel 51", 37 IN52 (in) "Analog input channel 52", 38 IN53 (in) "Analog input channel 53", 39 IN54 (in) "Analog input channel 54", 40 IN55 (in) "Analog input channel 55", 41 IN56 (in) "Analog input channel 56", 42 IN57 (in) "Analog input channel 57", 43 IN58 (in) "Analog input channel 58", 44 IN59 (in) "Analog input channel 59", 45 IN60 (in) "Analog input channel 60", 46 IN61 (in) "Analog input channel 61", 47 IN62 (in) "Analog input channel 62", 48 IN63 (in) "Analog input channel 63", 113 IN0 (in) "Analog input channel 0", 114 IN1 (in) "Analog input channel 1", 115 IN2 (in) "Analog input channel 2", 116 IN3 (in) "Analog input channel 3", 117 IN4 (in) "Analog input channel 4", 118 IN5 (in) "Analog input channel 5", 119 IN6 (in) "Analog input channel 6", 120 IN7 (in) "Analog input channel 7", 121 IN8 (in) "Analog input channel 8", 122 IN9 (in) "Analog input channel 9", 123 IN10 (in) "Analog input channel 10", 124 IN11 (in) "Analog input channel 11", 125 IN12 (in) "Analog input channel 12", 126 IN13 (in) "Analog input channel 13", 127 IN14 (in) "Analog input channel 14", 128 IN15 (in) "Analog input channel 15"
part B pins: 50 P_REF (out) "Internally generated 1.68 V reference output available for referencing photodiode cathodes.", 56 VT-A (in) "External voltage to control the amount of charge dump for TFT charge injection compensation. Charge dump = (V-voltage at 'EXT_C')*0.857 pC where V is external voltage at pins 56, 57. Short pins 56 and 57 externally and apply (See Datasheet)", 57 VT-B (in), 58 NC "These pins should be connected to VSS.", 63 STO (out) "Delayed ST for cascading next ASIC", 64 EOC (out) "End of data shifting, EOC is low during data read.", 66 INTG (in) "Filter bandwidth control for Signal sample (SHS). Filter BW is high when this signal is high and filter BW is low when this signal is low. Typically this signal should go high with TFT switch turn on and should go low ~0.5 (See Datasheet)", 67 IRST (in) "Resets the integrator capacitors on rising edge of this input.", 68 SHS (in) "Device samples 'signal' level of integrator output(0 to 63) onto the respective CDS on rising edge of this input.", 69 SHR (in) "Device samples 'reset' level of integrator output (0 to 63) onto the respective CDS on rising edge of this input.", 70 CLK (in) "For simultaneous mode: Device serially outputs the analog voltage from each integrator channel on each rising edge of CLK. For sequential mode: Device serially outputs the analog voltage from each integrator channel on every (See Datasheet)", 72 DF-SM (in) "Digital control to dump compensation charge on integrator capacitor; this is useful to nullify the effect of pixel TFT charge injection.", 77 OUTM-1 (hiz) "Driver 1-analog output negative terminal", 78 OUTP-1 (hiz) "Driver 1-analog output positive terminal", 83 OUTM-0 (hiz) "Driver 0-analog output negative terminal", 84 OUTP-0 (hiz) "Driver 0-analog output positive terminal", 88 PDZ (in) "Low level puts device in powerdown mode.", 89 NAPZ (in) "Low level puts device in NAP mode, this is useful for power saving during X-ray exposure period.", 92 ENTRI (in) "High on this pin enables 3-state of analog output drivers after shift out of data for all 64 channels.", 93 INTUPZ (in) "High level selects 'integration-down' mode. In this mode device integrates positive pixel current into each channels, starting from reset level (REFP) down to REFM low level selects 'integration-up' mode. In this mode the (See Datasheet)", 94 PGA-2 (in) "Selects eight different analog input ranges. Three bit word with these three bits represents binary number corresponding to Analog Input Range. PGA-2 is MSB and PGA-0 is LSB. Example 000 is range 0 and 100 is range 4.", 95 PGA-1 (in) "Selects eight different analog input ranges. Three bit word with these three bits represents binary number corresponding to Analog Input Range. PGA-2 is MSB and PGA-0 is LSB. Example 000 is range 0 and 100 is range 4.", 96 PGA-0 (in) "Selects eight different analog input ranges. Three bit word with these three bits represents binary number corresponding to Analog Input Range. PGA-2 is MSB and PGA-0 is LSB. Example 000 is range 0 and 100 is range 4.", 97 STI (in) "Rising edge resets the channel counter. Falling edge enables data transfer on OUTP and OUTM terminals.", 98 SMT-MD (in) "High level selects simultaneous mode. Device outputs data simultaneously on both differential output drivers OUTP-OUTM<0> and OUTP-OUTM<1> in this mode. Low level on this input selects sequential mode. In this mode device (See Datasheet)", 104 REFM (in) "Negative reference input", 105 REFP (in) "Positive reference input", 111 NC "These pins should be connected to VSS.", 112 EXT_C "Terminal available for decoupling internally generated integrator common-mode voltage (1.68 V). Decouple this pin to VSS with 1 uF ceramic capacitor. Internally connected to +ve terminals of all 64 integrators."
part C pins: 49 VSS (power) "Ground for device power supply", 51 VSS (power) "Ground for device power supply", 52 VSS (power) "Ground for device power supply", 53 VDD (power) "Device power supply", 54 VSS (power) "Ground for device power supply", 55 VDD (power) "Device power supply", 59 VSS (power) "Ground for device power supply", 60 VDD (power) "Device power supply", 61 VDD (power) "Device power supply", 62 VSS (power) "Ground for device power supply", 65 VSS (power) "Ground for device power supply", 71 VSS (power) "Ground for device power supply", 73 VSS (power) "Ground for device power supply", 74 VSS (power) "Ground for device power supply", 75 VDD (power) "Device power supply", 76 VSS (power) "Ground for device power supply", 79 VSS (power) "Ground for device power supply", 80 VSS (power) "Ground for device power supply", 81 VDD (power) "Device power supply", 82 VSS (power) "Ground for device power supply", 85 VSS (power) "Ground for device power supply", 86 VSS (power) "Ground for device power supply", 87 VDD (power) "Device power supply", 90 VSS (power) "Ground for device power supply", 91 VSS (power) "Ground for device power supply", 99 VSS (power) "Ground for device power supply", 100 VDD (power) "Device power supply", 101 VSS (power) "Ground for device power supply", 102 VSS (power) "Ground for device power supply", 103 VSS (power) "Ground for device power supply", 106 VDD (power) "Device power supply", 107 VSS (power) "Ground for device power supply", 108 VDD (power) "Device power supply", 109 VSS (power) "Ground for device power supply", 110 VSS (power) "Ground for device power supply"

## AFE0064IPBKR
designator U?
64 Channel Analog Front End for Digital X-Ray Detector, -40 to 85 degC, 128-pin QFP (PBK128), Green (RoHS & no Sb/Br); Manufacturer: Texas Instruments; PartNumber: AFE0064IPBKR; # Input Channels: 64; Analog Voltage AV/DD(Max)(V): 3.6; Analog Voltage AV/DD(Min)(V): 3.2; Resolution(Bits): 14; SubFamily: Current Input ADC; DatasheetVersion: SLAS672; PackageVersion: 4040279-3/C, 10/1996; PackageReference: PBK128; PackageDescription: 128-Pin Plastic Quad Flatpack, Body 14 x 14 mm, Pitch 0.4 mm; Supplier 1: Digi-Key; Supplier Part Number 1: ADS1211UG4-ND; Supplier 2: Mouser; Supplier Part Number 2: 595-ADS1211UG4; Digital Supply(Max)(V): 3.6; Digital Supply(Min)(V): 3.2; Eco-Plan: Green (RoHS & no Sb/Br); Mounting Technology: Surface Mount; Code_JEDEC: MS-026; ComponentLink1Description: Manufacturer URL; ComponentLink1URL: http://www.ti.com/; ComponentLink2Description: Datasheet; ComponentLink2URL: http://www.ti.com/general/docs/lit/getliterature.tsp?genericPartNumber=AFE0064&fileType=pdf; ComponentLink3Description: Package Specification; ComponentLink3URL: http://www.ti.com/litv/pdf/mtqf015a
footprint TI-PBK128_N (QFP, 128-Leads, Body 14x14mm, Pitch 0.4mm, IPC Medium Density)
footprint TI-PBK128_L (QFP, 128-Leads, Body 14x14mm, Pitch 0.4mm, IPC High Density)
footprint TI-PBK128_M (QFP, 128-Leads, Body 14x14mm, Pitch 0.4mm, IPC Low Density)
part A pins: 1 IN16 (in) "Analog input channel 16", 2 IN17 (in) "Analog input channel 17", 3 IN18 (in) "Analog input channel 18", 4 IN19 (in) "Analog input channel 19", 5 IN20 (in) "Analog input channel 20", 6 IN21 (in) "Analog input channel 21", 7 IN22 (in) "Analog input channel 22", 8 IN23 (in) "Analog input channel 23", 9 IN24 (in) "Analog input channel 24", 10 IN25 (in) "Analog input channel 25", 11 IN26 (in) "Analog input channel 26", 12 IN27 (in) "Analog input channel 27", 13 IN28 (in) "Analog input channel 28", 14 IN29 (in) "Analog input channel 29", 15 IN30 (in) "Analog input channel 30", 16 IN31 (in) "Analog input channel 31", 17 IN32 (in) "Analog input channel 32", 18 IN33 (in) "Analog input channel 33", 19 IN34 (in) "Analog input channel 34", 20 IN35 (in) "Analog input channel 35", 21 IN36 (in) "Analog input channel 36", 22 IN37 (in) "Analog input channel 37", 23 IN38 (in) "Analog input channel 38", 24 IN39 (in) "Analog input channel 39", 25 IN40 (in) "Analog input channel 40", 26 IN41 (in) "Analog input channel 41", 27 IN42 (in) "Analog input channel 42", 28 IN43 (in) "Analog input channel 43", 29 IN44 (in) "Analog input channel 44", 30 IN45 (in) "Analog input channel 45", 31 IN46 (in) "Analog input channel 46", 32 IN47 (in) "Analog input channel 47", 33 IN48 (in) "Analog input channel 48", 34 IN49 (in) "Analog input channel 49", 35 IN50 (in) "Analog input channel 50", 36 IN51 (in) "Analog input channel 51", 37 IN52 (in) "Analog input channel 52", 38 IN53 (in) "Analog input channel 53", 39 IN54 (in) "Analog input channel 54", 40 IN55 (in) "Analog input channel 55", 41 IN56 (in) "Analog input channel 56", 42 IN57 (in) "Analog input channel 57", 43 IN58 (in) "Analog input channel 58", 44 IN59 (in) "Analog input channel 59", 45 IN60 (in) "Analog input channel 60", 46 IN61 (in) "Analog input channel 61", 47 IN62 (in) "Analog input channel 62", 48 IN63 (in) "Analog input channel 63", 113 IN0 (in) "Analog input channel 0", 114 IN1 (in) "Analog input channel 1", 115 IN2 (in) "Analog input channel 2", 116 IN3 (in) "Analog input channel 3", 117 IN4 (in) "Analog input channel 4", 118 IN5 (in) "Analog input channel 5", 119 IN6 (in) "Analog input channel 6", 120 IN7 (in) "Analog input channel 7", 121 IN8 (in) "Analog input channel 8", 122 IN9 (in) "Analog input channel 9", 123 IN10 (in) "Analog input channel 10", 124 IN11 (in) "Analog input channel 11", 125 IN12 (in) "Analog input channel 12", 126 IN13 (in) "Analog input channel 13", 127 IN14 (in) "Analog input channel 14", 128 IN15 (in) "Analog input channel 15"
part B pins: 50 P_REF (out) "Internally generated 1.68 V reference output available for referencing photodiode cathodes.", 56 VT-A (in) "External voltage to control the amount of charge dump for TFT charge injection compensation. Charge dump = (V-voltage at 'EXT_C')*0.857 pC where V is external voltage at pins 56, 57. Short pins 56 and 57 externally and apply (See Datasheet)", 57 VT-B (in), 58 NC "These pins should be connected to VSS.", 63 STO (out) "Delayed ST for cascading next ASIC", 64 EOC (out) "End of data shifting, EOC is low during data read.", 66 INTG (in) "Filter bandwidth control for Signal sample (SHS). Filter BW is high when this signal is high and filter BW is low when this signal is low. Typically this signal should go high with TFT switch turn on and should go low ~0.5 (See Datasheet)", 67 IRST (in) "Resets the integrator capacitors on rising edge of this input.", 68 SHS (in) "Device samples 'signal' level of integrator output(0 to 63) onto the respective CDS on rising edge of this input.", 69 SHR (in) "Device samples 'reset' level of integrator output (0 to 63) onto the respective CDS on rising edge of this input.", 70 CLK (in) "For simultaneous mode: Device serially outputs the analog voltage from each integrator channel on each rising edge of CLK. For sequential mode: Device serially outputs the analog voltage from each integrator channel on every (See Datasheet)", 72 DF-SM (in) "Digital control to dump compensation charge on integrator capacitor; this is useful to nullify the effect of pixel TFT charge injection.", 77 OUTM-1 (hiz) "Driver 1-analog output negative terminal", 78 OUTP-1 (hiz) "Driver 1-analog output positive terminal", 83 OUTM-0 (hiz) "Driver 0-analog output negative terminal", 84 OUTP-0 (hiz) "Driver 0-analog output positive terminal", 88 PDZ (in) "Low level puts device in powerdown mode.", 89 NAPZ (in) "Low level puts device in NAP mode, this is useful for power saving during X-ray exposure period.", 92 ENTRI (in) "High on this pin enables 3-state of analog output drivers after shift out of data for all 64 channels.", 93 INTUPZ (in) "High level selects 'integration-down' mode. In this mode device integrates positive pixel current into each channels, starting from reset level (REFP) down to REFM low level selects 'integration-up' mode. In this mode the (See Datasheet)", 94 PGA-2 (in) "Selects eight different analog input ranges. Three bit word with these three bits represents binary number corresponding to Analog Input Range. PGA-2 is MSB and PGA-0 is LSB. Example 000 is range 0 and 100 is range 4.", 95 PGA-1 (in) "Selects eight different analog input ranges. Three bit word with these three bits represents binary number corresponding to Analog Input Range. PGA-2 is MSB and PGA-0 is LSB. Example 000 is range 0 and 100 is range 4.", 96 PGA-0 (in) "Selects eight different analog input ranges. Three bit word with these three bits represents binary number corresponding to Analog Input Range. PGA-2 is MSB and PGA-0 is LSB. Example 000 is range 0 and 100 is range 4.", 97 STI (in) "Rising edge resets the channel counter. Falling edge enables data transfer on OUTP and OUTM terminals.", 98 SMT-MD (in) "High level selects simultaneous mode. Device outputs data simultaneously on both differential output drivers OUTP-OUTM<0> and OUTP-OUTM<1> in this mode. Low level on this input selects sequential mode. In this mode device (See Datasheet)", 104 REFM (in) "Negative reference input", 105 REFP (in) "Positive reference input", 111 NC "These pins should be connected to VSS.", 112 EXT_C "Terminal available for decoupling internally generated integrator common-mode voltage (1.68 V). Decouple this pin to VSS with 1 uF ceramic capacitor. Internally connected to +ve terminals of all 64 integrators."
part C pins: 49 VSS (power) "Ground for device power supply", 51 VSS (power) "Ground for device power supply", 52 VSS (power) "Ground for device power supply", 53 VDD (power) "Device power supply", 54 VSS (power) "Ground for device power supply", 55 VDD (power) "Device power supply", 59 VSS (power) "Ground for device power supply", 60 VDD (power) "Device power supply", 61 VDD (power) "Device power supply", 62 VSS (power) "Ground for device power supply", 65 VSS (power) "Ground for device power supply", 71 VSS (power) "Ground for device power supply", 73 VSS (power) "Ground for device power supply", 74 VSS (power) "Ground for device power supply", 75 VDD (power) "Device power supply", 76 VSS (power) "Ground for device power supply", 79 VSS (power) "Ground for device power supply", 80 VSS (power) "Ground for device power supply", 81 VDD (power) "Device power supply", 82 VSS (power) "Ground for device power supply", 85 VSS (power) "Ground for device power supply", 86 VSS (power) "Ground for device power supply", 87 VDD (power) "Device power supply", 90 VSS (power) "Ground for device power supply", 91 VSS (power) "Ground for device power supply", 99 VSS (power) "Ground for device power supply", 100 VDD (power) "Device power supply", 101 VSS (power) "Ground for device power supply", 102 VSS (power) "Ground for device power supply", 103 VSS (power) "Ground for device power supply", 106 VDD (power) "Device power supply", 107 VSS (power) "Ground for device power supply", 108 VDD (power) "Device power supply", 109 VSS (power) "Ground for device power supply", 110 VSS (power) "Ground for device power supply"